# Altium footprint library Manu.PcbLib: 82 footprints (part 2 of 6)
Each footprint in its own frame and in the unit in brackets; x right, y up, seen from the top. Pads: shape width x height; smd on the part's side, far side on the other; paste and mask are expansions set on the pad; w line width, h text height; cw(c..) or ccw(c..) is an arc to the next point about the centre after c.
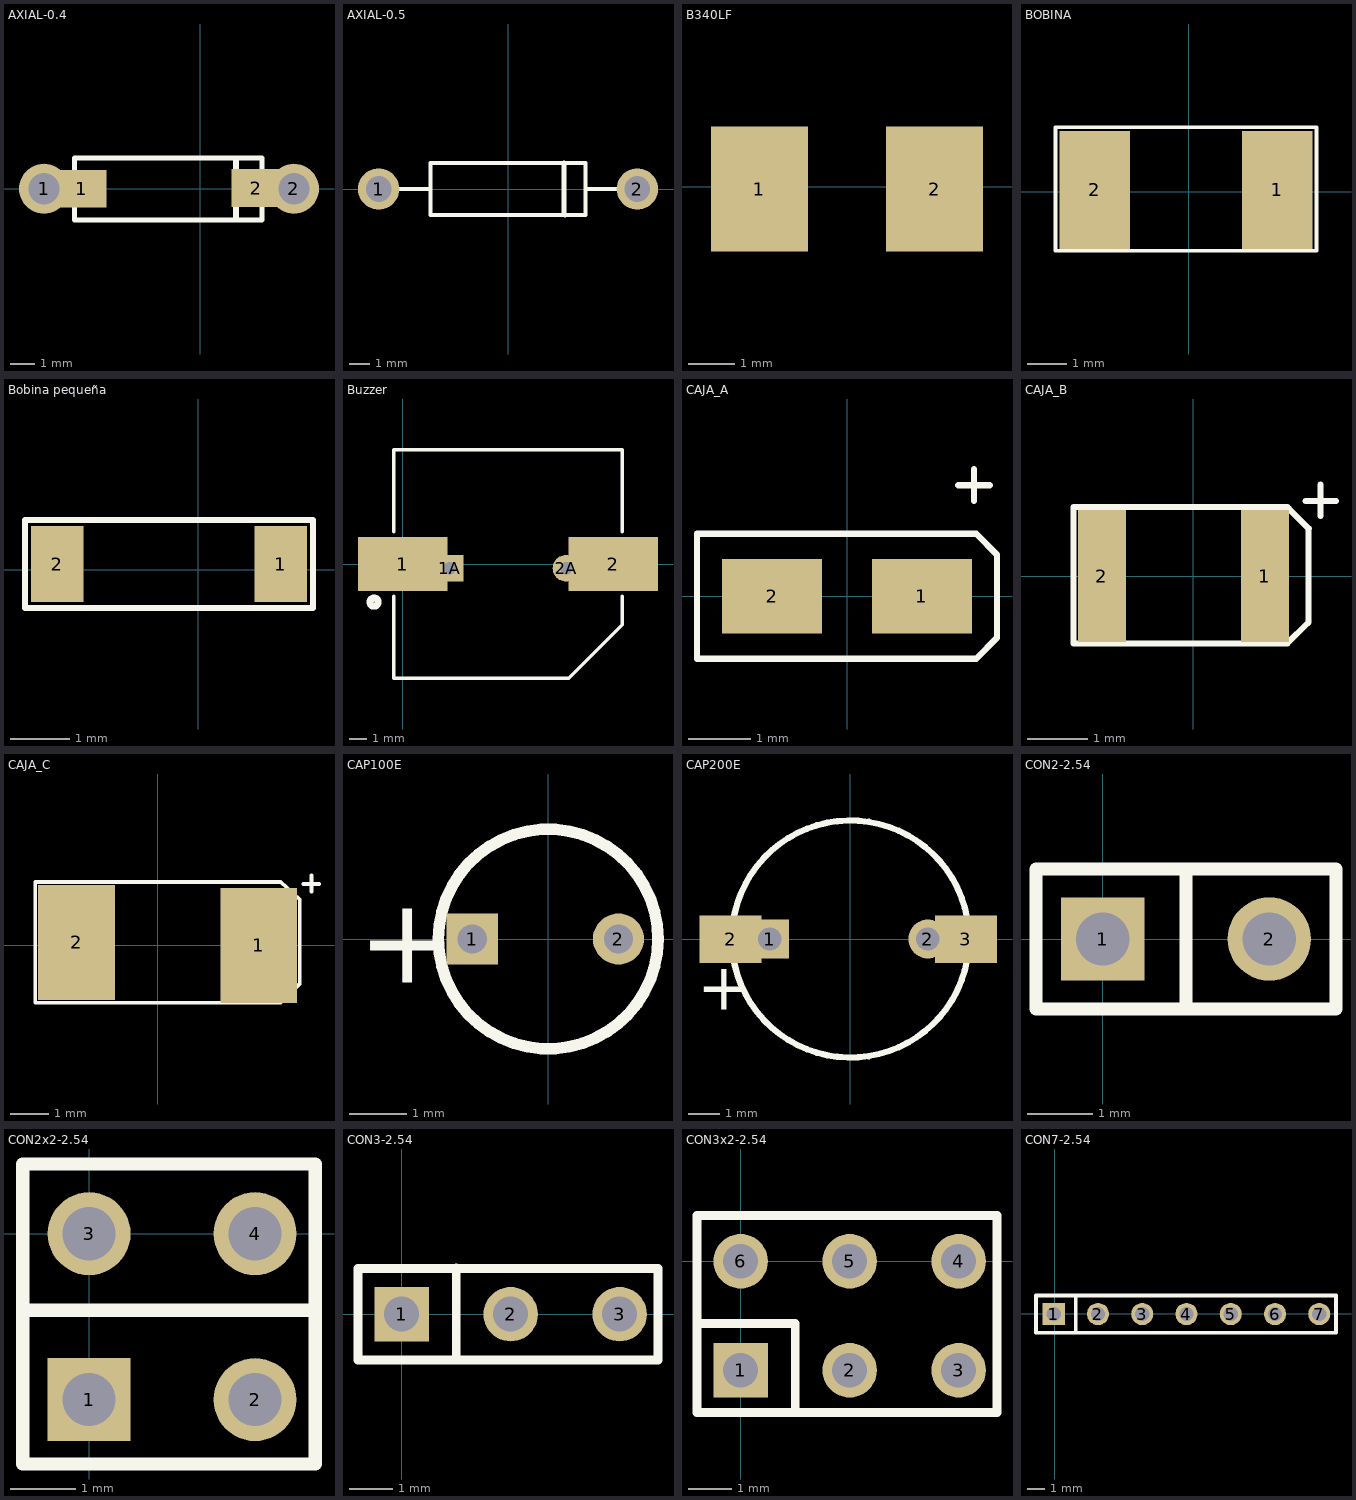
[diagram p1: the footprints below, top view; thin cyan lines are the x and y axes]

## AXIAL-0.4 [mm] "Semiconductor Resistor; 2 Leads"
height 2.54
pads (4):
  round 2.032 hole 1.27: 1(-6.35,0) 2(3.8,0)
  rect 2x1.524 smd: 1(-4.82,0) 2(2.26,0.03)
Top Overlay:
  lines w0.2: -5.11,-1.27 -5.11,1.25 2.51,1.25 2.51,-1.27 -5.11,-1.27
  lines w0.254: 1.443,-1.15 1.443,1.2

## AXIAL-0.5 [mil] "Semiconductor Resistor; 2 Leads"
height 100
pads (2):
  round 80 hole 50: 1(-250,0) 2(250,0)
Top Overlay:
  lines w7.87: -210,0 -150,0 ; 150,0 210,0 ; -150,-50 -150,50 150,50 150,-50 -150,-50
  lines w10: 108,50 108,-48 110,-50

## B340LF [mm]
height 1.75
pads (2):
  rect 2.1x2.7 smd: 1(-6.05,-0.05) 2(-2.25,-0.05)

## BOBINA [mm] "Bobina DTMC"
pads (2):
  rect 1.8x3 smd: 1(2.25,0.05) 2(-2.4,0.05)
Top Overlay:
  lines w0.1: -3.4,-1.5 -3.4,1.65 3.25,1.65 3.25,-1.5 -3.4,-1.5

## Bobina pequeña [mm] "Bobina VLF4012A"
pads (2):
  rect 0.9x1.3 smd: 1(1.4,0.1) 2(-2.4,0.1)
Top Overlay:
  lines w0.1: -2.95,-0.65 -2.95,0.85 1.95,0.85 1.95,-0.65 -2.95,-0.65

## Buzzer [mm] "Magnetic Transducer Buzzer"
pads (4):
  rect 5x3 smd: 1(0,0) 2(11.8,0)
  rect 1.5x1.5 hole 0.7: 1A(2.65,-0.24)
  round 1.5 hole 0.7: 2A(9.15,-0.24)
Top Overlay:
  circle w0.4: c-1.6,-2.134 r0.227
  lines w0.2: -0.5,-1.8 -0.5,-6.4 9.3,-6.4 12.3,-3.4 12.3,-1.8 ; -0.5,1.8 -0.5,6.4 12.3,6.4 12.3,1.8

## CAJA_A [mm]
pads (2):
  rect 1.6x1.2 smd: 1(1.2,0) 2(-1.2,0)
Top Overlay:
  lines w0.1: -2.4,-1 -2.4,0 -2.4,1 2.067,1 2.4,0.667 2.4,-0.667 2.067,-1 -2.4,-1
  lines w0.102: 1.778,1.778 2.286,1.778 ; 2.032,1.524 2.032,1.651 2.032,1.714 2.032,1.841 2.032,1.905 2.032,2.032

## CAJA_B [mm]
pads (2):
  rect 0.8x2.2 smd: 1(1.2,0) 2(-1.524,0)
Top Overlay:
  lines w0.1: -2,-1.125 1.55,-1.125 ; -2,-1.1 -2,-0.1 -2,1.15 ; -1.992,1.15 1.575,1.15 ; 1.575,-1.125 1.908,-0.792 ; 1.6,1.125 1.933,0.792 ; 1.925,-0.775 1.925,0.775
  lines w0.102: 1.878,1.253 2.386,1.253 ; 2.125,1 2.125,1.527

## CAJA_C [mm]
pads (2):
  rect 2x3 smd: 1(2.625,0) 2(-2.125,0.075)
Top Overlay:
  lines w0.1: -3.2,-1.5 -3.2,1.65 -1.492,1.65 3.2,1.65 3.7,1.2 3.7,-1 3.2,-1.5 -3.2,-1.5
  lines w0.102: 3.8,1.6 4.2,1.6 ; 4,1.4 4,1.827

## CAP100E [mil] "2.5x2.5mm"
pads (2):
  rect 35x35 hole 20: 1(-52,0)
  round 35 hole 20: 2(48,0)
Top Overlay:
  circle w7.87: c0,0 r75
  text "+" at -130,-30 h59.06

## CAP200E [mm] "5x5mm"
pads (4):
  rect 1.25x1.25 hole 0.75: 1(-2.591,0)
  rect 2x1.524 smd: 2(-3.85,-0.01) 3(3.71,-0.01)
  round 1.25 hole 0.75: 2(2.489,0)
Top Overlay:
  circle w0.2: c0,0 r3.81
  text "+" at -4.93,-2.28 h1.5

## CON2-2.54 [mil] "CON2-2.54"
height 1.61
pads (2):
  rect 50x50 hole 32 unplated: 1(0,0)
  round 50 hole 32 unplated: 2(100,0)
Top Overlay:
  lines w8: 50,-42 50,42 ; -40,-42 140,-42 140,42 -40,42 -40,-42

## CON2x2-2.54 [mm] "CON2x2-2.54"
height 0.041
pads (4):
  rect 1.27x1.27 hole 0.813 unplated: 1(0,-2.54)
  round 1.27 hole 0.813 unplated: 2(2.54,-2.54) 3(0,0) 4(2.54,0)
Top Overlay:
  lines w0.203: -0.99,-1.17 3.45,-1.17 ; -1.016,-3.525 -1.016,1.067 3.46,1.067 3.46,-3.525 -1.016,-3.525

## CON3-2.54 [mil] "CON3-2.54"
height 1.61
pads (3):
  rect 50x50 hole 32 unplated: 1(0,0)
  round 50 hole 32 unplated: 2(100,0)
  round 50 hole 32.01 unplated: 3(200,0)
Top Overlay:
  lines w8: 50.2,-41.34 50.2,42.32 ; -40,-42 -40,42 235.24,42 235.24,-42 -40,-42

## CON3x2-2.54 [mm] "CON3x2-2.54"
height 0.041
pads (6):
  rect 1.27x1.27 hole 0.813 unplated: 1(0,-2.54)
  round 1.27 hole 0.813 unplated: 2(2.54,-2.54) 3(5.08,-2.54) 4(5.08,0) 5(2.54,0) 6(0,0)
Top Overlay:
  lines w0.203: -1,-1.45 1.275,-1.45 1.275,-3.5 ; -1.016,-3.525 -1.016,1.067 5.975,1.067 5.975,-3.525 -1.016,-3.525

## CON7-2.54 [mm] "CON7-2.54"
pads (7):
  rect 1.27x1.27 hole 0.813 unplated: 1(-0.06,-0.01)
  round 1.27 hole 0.813 unplated: 2(2.48,-0.01) 3(5.02,-0.01) 4(7.56,-0.01) 5(10.1,-0.01) 6(12.64,-0.01) 7(15.18,-0.01)
Top Overlay:
  lines w0.203: 1.215,-1.06 1.215,1.065 ; -1.076,-1.077 16.14,-1.077 16.14,1.057 -1.076,1.057 -1.076,-1.077